# Altium footprint library pw.PcbLib: 18 footprints (part 2 of 2)
Each footprint in its own frame and in the unit in brackets; x right, y up, seen from the top. Pads: shape width x height; smd on the part's side, far side on the other; paste and mask are expansions set on the pad; w line width, h text height; cw(c..) or ccw(c..) is an arc to the next point about the centre after c.
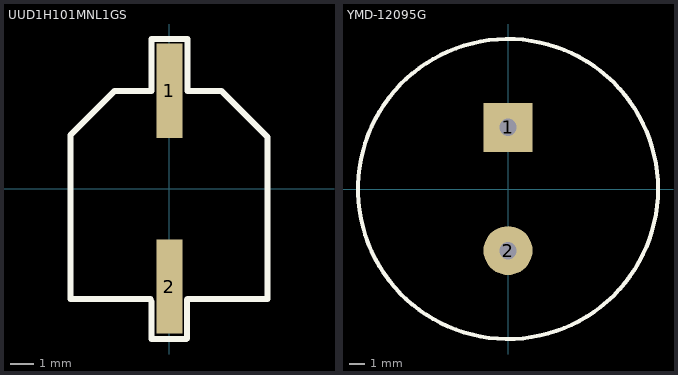
[diagram p1: the footprints below, top view; thin cyan lines are the x and y axes]

## UUD1H101MNL1GS [mm]
pads (2):
  rect 1.1x4 smd: 1(0,4.15) 2(0,-4.15)
Top Overlay:
  lines w0.254: -0.813,-4.674 -4.191,-4.674 -4.191,2.286 -2.327,4.15 -0.762,4.15 -0.762,6.35 0.762,6.35 0.762,4.14 2.19,4.14 ; -0.762,-4.775 -0.762,-6.375 0.711,-6.375 0.737,-6.35 0.737,-4.699 ; 0.762,-4.674 4.15,-4.674 4.15,2.2 2.2,4.15
3D body "User Library-ALU-E.STEP": height 6.2, standoff 0, extent -4.15,-4.5 4.15,4.5

## YMD-12095G [mm]
pads (2):
  rect 3.1x3.1 hole 1.1: 1(0,3.9)
  round 3.1 hole 1.1: 2(0,-3.9)
Top Overlay:
  circle w0.254: c0,0 r9.5
3D body "User Library-CEP2242_Buzzer.STEP": height 7.59, standoff -5.5, extent -6.845,-6.845 6.845,6.845